# EAGLE library part TESTDEVICE (library testlibrary)
A test device
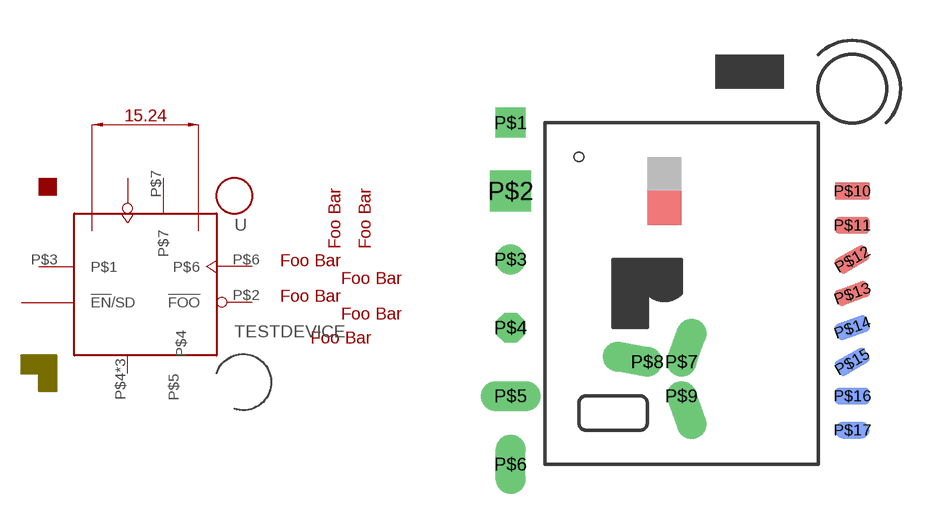
[diagram p0: symbol with the pads of TESTPACKAGE; footprint TESTPACKAGE]

Designator prefix U

## TESTDEVICE  [TESTPACKAGE]
P$1  !EN!/SD
P$2  !FOO
P$3  P$1
P$4  P$3
P$5  P$4
P$6  P$6
P$7  P$7
P$8  P$8
P$9  P$8
P$10  P$8
P$13  P$3
P$16  P$3

## Footprint TESTPACKAGE (pad centres in mm)
A test package
drill 0.6 square: P$1 -6.35,6.35
drill 0.6 pad 1.524 square: P$2 -6.35,3.81
drill 0.6: P$3 -6.35,1.27
drill 0.6 octagon: P$4 -6.35,-1.27
drill 0.6 long: P$5 -6.35,-3.81; P$6 -6.35,-6.35
drill 0.6 offset: P$7 0,-2.54; P$8 -1.27,-2.54; P$9 0,-3.81
smd 1.27 x 0.635: P$10 6.35,3.81; P$11 6.35,2.54
smd 1.27 x 0.635 rotated 30: P$12 6.35,1.27
smd 1.27 x 0.635 rotated 200: P$13 6.35,0
smd 1.27 x 0.635 rotated 200 bottom: P$14 6.35,-1.27
smd 1.27 x 0.635 rotated 30 bottom: P$15 6.35,-2.54
smd 1.27 x 0.635 bottom: P$16 6.35,-3.81; P$17 6.35,-5.08
hole 0.35 at -3.81,5.08